# EAGLE library part ATMEGA2560V-8AUR (library avr-7(ATMEGA))
IC MCU 8BIT 256KB FLASH 100TQFP
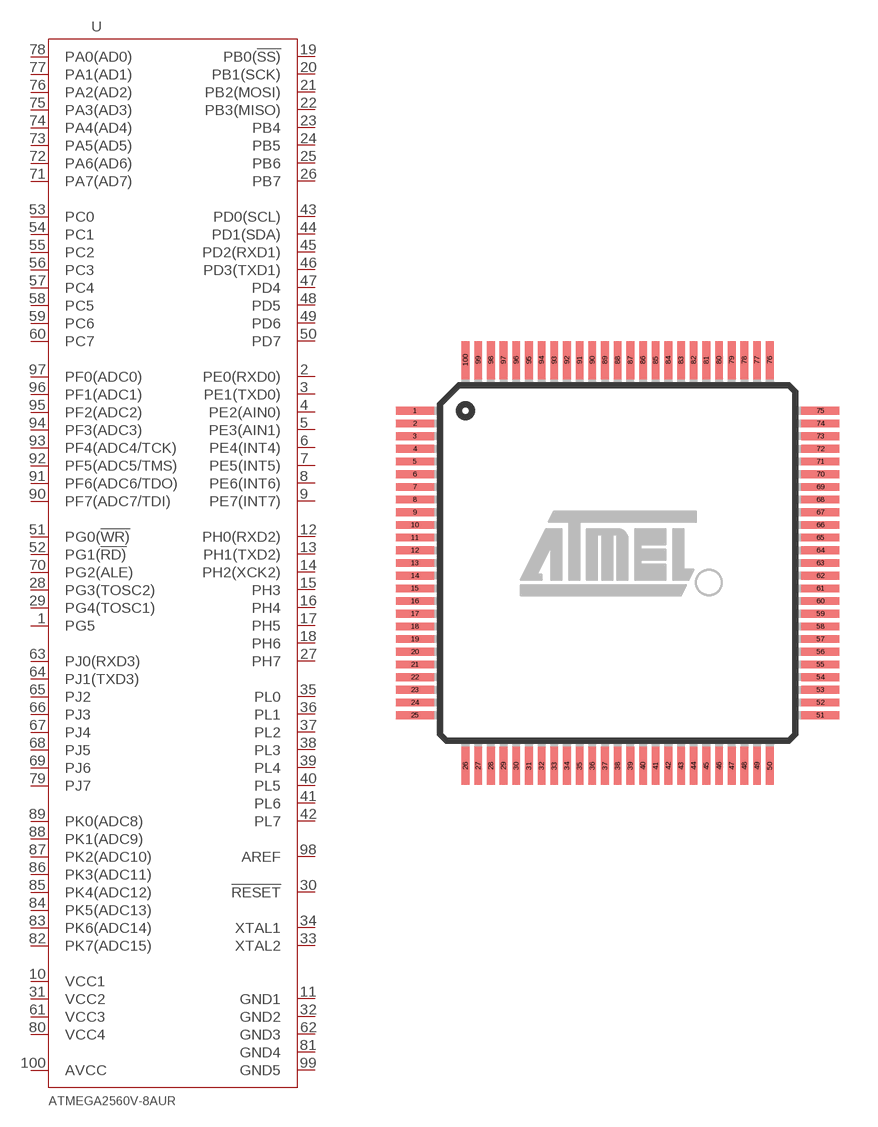
[diagram p66: symbol with the pads of TQFP100; footprint TQFP100]

Designator prefix U

## ATMEGA2560V-8AUR (DIGIKEY: ATMEGA2560V-8AURCT-ND; MPN: ATMEGA2560V-8AUR)  [TQFP100]
1  PG5
2  PE0(RXD0)
3  PE1(TXD0)
4  PE2(AIN0)
5  PE3(AIN1)
6  PE4(INT4)
7  PE5(INT5)
8  PE6(INT6)
9  PE7(INT7)
10  VCC1
11  GND1
12  PH0(RXD2)
13  PH1(TXD2)
14  PH2(XCK2)
15  PH3
16  PH4
17  PH5
18  PH6
19  PB0(!SS)
20  PB1(SCK)
21  PB2(MOSI)
22  PB3(MISO)
23  PB4
24  PB5
25  PB6
26  PB7
27  PH7
28  PG3(TOSC2)
29  PG4(TOSC1)
30  !RESET
31  VCC2
32  GND2
33  XTAL2
34  XTAL1
35  PL0
36  PL1
37  PL2
38  PL3
39  PL4
40  PL5
41  PL6
42  PL7
43  PD0(SCL)
44  PD1(SDA)
45  PD2(RXD1)
46  PD3(TXD1)
47  PD4
48  PD5
49  PD6
50  PD7
51  PG0(!WR)
52  PG1(!RD)
53  PC0
54  PC1
55  PC2
56  PC3
57  PC4
58  PC5
59  PC6
60  PC7
61  VCC3
62  GND3
63  PJ0(RXD3)
64  PJ1(TXD3)
65  PJ2
66  PJ3
67  PJ4
68  PJ5
69  PJ6
70  PG2(ALE)
71  PA7(AD7)
72  PA6(AD6)
73  PA5(AD5)
74  PA4(AD4)
75  PA3(AD3)
76  PA2(AD2)
77  PA1(AD1)
78  PA0(AD0)
79  PJ7
80  VCC4
81  GND4
82  PK7(ADC15)
83  PK6(ADC14)
84  PK5(ADC13)
85  PK4(ADC12)
86  PK3(ADC11)
87  PK2(ADC10)
88  PK1(ADC9)
89  PK0(ADC8)
90  PF7(ADC7/TDI)
91  PF6(ADC6/TDO)
92  PF5(ADC5/TMS)
93  PF4(ADC4/TCK)
94  PF3(ADC3)
95  PF2(ADC2)
96  PF1(ADC1)
97  PF0(ADC0)
98  AREF
99  GND5
100  AVCC

## Footprint TQFP100 (pad centres in mm)
100-lead Thin Quad Flat Pack Package Outline
smd 1.5 x 0.305: 1 -8,6; 2 -8,5.5; 3 -8,5; 4 -8,4.5; 5 -8,4; 6 -8,3.5; 7 -8,3; 8 -8,2.5; 9 -8,2; 10 -8,1.5; 11 -8,1; 12 -8,0.5; 13 -8,0; 14 -8,-0.5; 15 -8,-1; 16 -8,-1.5; 17 -8,-2; 18 -8,-2.5; 19 -8,-3; 20 -8,-3.5; 21 -8,-4; 22 -8,-4.5; 23 -8,-5; 24 -8,-5.5; 25 -8,-6; 51 8,-6; 52 8,-5.5; 53 8,-5; 54 8,-4.5; 55 8,-4; 56 8,-3.5; 57 8,-3; 58 8,-2.5; 59 8,-2; 60 8,-1.5; 61 8,-1; 62 8,-0.5; 63 8,0; 64 8,0.5; 65 8,1; 66 8,1.5; 67 8,2; 68 8,2.5; 69 8,3; 70 8,3.5; 71 8,4; 72 8,4.5; 73 8,5; 74 8,5.5; 75 8,6
smd 0.305 x 1.5: 26 -6,-8; 27 -5.5,-8; 28 -5,-8; 29 -4.5,-8; 30 -4,-8; 31 -3.5,-8; 32 -3,-8; 33 -2.5,-8; 34 -2,-8; 35 -1.5,-8; 36 -1,-8; 37 -0.5,-8; 38 0,-8; 39 0.5,-8; 40 1,-8; 41 1.5,-8; 42 2,-8; 43 2.5,-8; 44 3,-8; 45 3.5,-8; 46 4,-8; 47 4.5,-8; 48 5,-8; 49 5.5,-8; 50 6,-8; 76 6,8; 77 5.5,8; 78 5,8; 79 4.5,8; 80 4,8; 81 3.5,8; 82 3,8; 83 2.5,8; 84 2,8; 85 1.5,8; 86 1,8; 87 0.5,8; 88 0,8; 89 -0.5,8; 90 -1,8; 91 -1.5,8; 92 -2,8; 93 -2.5,8; 94 -3,8; 95 -3.5,8; 96 -4,8; 97 -4.5,8; 98 -5,8; 99 -5.5,8; 100 -6,8